# EAGLE library part CON_USB-C (library akita)
USB Type-C, Receptable
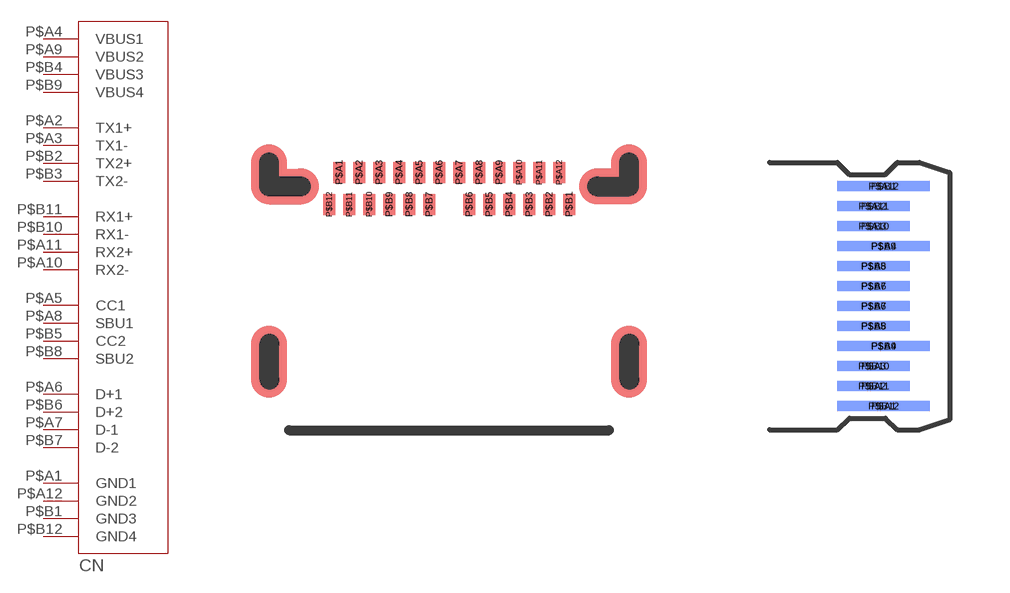
[diagram p198: symbol with the pads of USB-C_24P; footprints USB-C_24P, USB-C_PCBPLUG]

Designator prefix CN

## CON_USB-C  [USB-C_24P]
P$A1  GND1
P$A2  TX1+
P$A3  TX1-
P$A4  VBUS1
P$A5  CC1
P$A6  D+1
P$A7  D-1
P$A8  SBU1
P$A9  VBUS2
P$A10  RX2-
P$A11  RX2+
P$A12  GND2
P$B1  GND3
P$B2  TX2+
P$B3  TX2-
P$B4  VBUS3
P$B5  CC2
P$B6  D+2
P$B7  D-2
P$B8  SBU2
P$B9  VBUS4
P$B10  RX1-
P$B11  RX1+
P$B12  GND4

## CON_USB-CPCBPLUG  [USB-C_PCBPLUG]
Pads as for USB-C_24P

## Footprint USB-C_24P (pad centres in mm)
USB Type-C, Receptacle, 24p (Amphenol 12401902E212A)
smd 0.3 x 0.53: P$A1 -2.75,2.73; P$A2 -2.25,2.73; P$A3 -1.75,2.73; P$A4 -1.25,2.73; P$A5 -0.75,2.73; P$A6 -0.25,2.73; P$A7 0.25,2.73; P$A8 0.75,2.73; P$A9 1.25,2.73; P$A10 1.75,2.73; P$A11 2.25,2.73; P$A12 2.75,2.73; P$B1 3,1.93; P$B2 2.5,1.93; P$B3 2,1.93; P$B4 1.5,1.93; P$B5 1,1.93; P$B6 0.5,1.93; P$B7 -0.5,1.93; P$B8 -1,1.93; P$B9 -1.5,1.93; P$B10 -2,1.93; P$B11 -2.5,1.93; P$B12 -3,1.93

## Footprint USB-C_PCBPLUG (pad centres in mm)
USB-C PCB plug
smd 2.3 x 0.25: P$A1 0.25,-2.75; P$A4 0.25,-1.25; P$A9 0.25,1.25; P$A12 0.25,2.75
smd 1.8 x 0.25: P$A2 0,-2.25; P$A3 0,-1.75; P$A5 0,-0.75; P$A6 0,-0.25; P$A7 0,0.25; P$A8 0,0.75; P$A10 0,1.75; P$A11 0,2.25
smd 2.3 x 0.25 bottom: P$B1 0.25,2.75; P$B4 0.25,1.25; P$B9 0.25,-1.25; P$B12 0.25,-2.75
smd 1.8 x 0.25 bottom: P$B2 0,2.25; P$B3 0,1.75; P$B5 0,0.75; P$B6 0,0.25; P$B7 0,-0.25; P$B8 0,-0.75; P$B10 0,-1.75; P$B11 0,-2.25